# EAGLE library part ST62T10CB6 (library ST Microelctronics_By_element14_Batch_1)
8-bit MCUs with A/D converter two timers, oscillator safeguard & safe reset
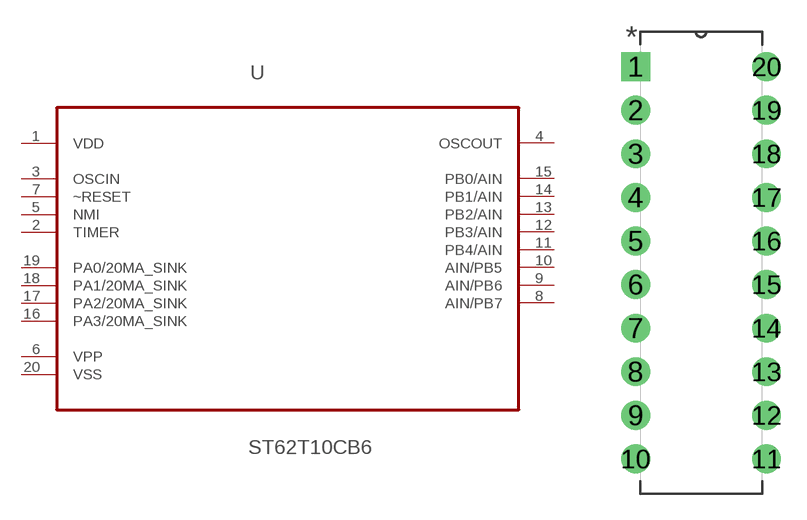
[diagram p308: symbol with the pads of DIP254P762X533-20; footprint DIP254P762X533-20]

Designator prefix U

## ST62T10CB6 (MPN: ST62T10CB6; OC_FARNELL: 1094326; OC_NEWARK: 57P2866; PACKAGE: PDIP-20; SUPPLIER: STMICROELECTRONICS)  [DIP254P762X533-20]
1  VDD  pwr
2  TIMER
3  OSCIN  in
4  OSCOUT  out
5  NMI  in
6  VPP  pas
7  ~RESET
8  AIN/PB7
9  AIN/PB6
10  AIN/PB5
11  PB4/AIN
12  PB3/AIN
13  PB2/AIN
14  PB1/AIN
15  PB0/AIN
16  PA3/20MA_SINK
17  PA2/20MA_SINK
18  PA1/20MA_SINK
19  PA0/20MA_SINK  in
20  VSS  pas

## Footprint DIP254P762X533-20 (pad centres in mm)
drill 1.118 square: 1 -7.62,22.86
drill 1.118: 2 -7.62,20.32; 3 -7.62,17.78; 4 -7.62,15.24; 5 -7.62,12.7; 6 -7.62,10.16; 7 -7.62,7.62; 8 -7.62,5.08; 9 -7.62,2.54; 10 -7.62,0; 11 0,0; 12 0,2.54; 13 0,5.08; 14 0,7.62; 15 0,10.16; 16 0,12.7; 17 0,15.24; 18 0,17.78; 19 0,20.32; 20 0,22.86